# Altium schematic symbol library Generic-Schematic-Library.SchLib: 44 symbols
Pins are listed as number, name and electrical type; pins without a type are passive.

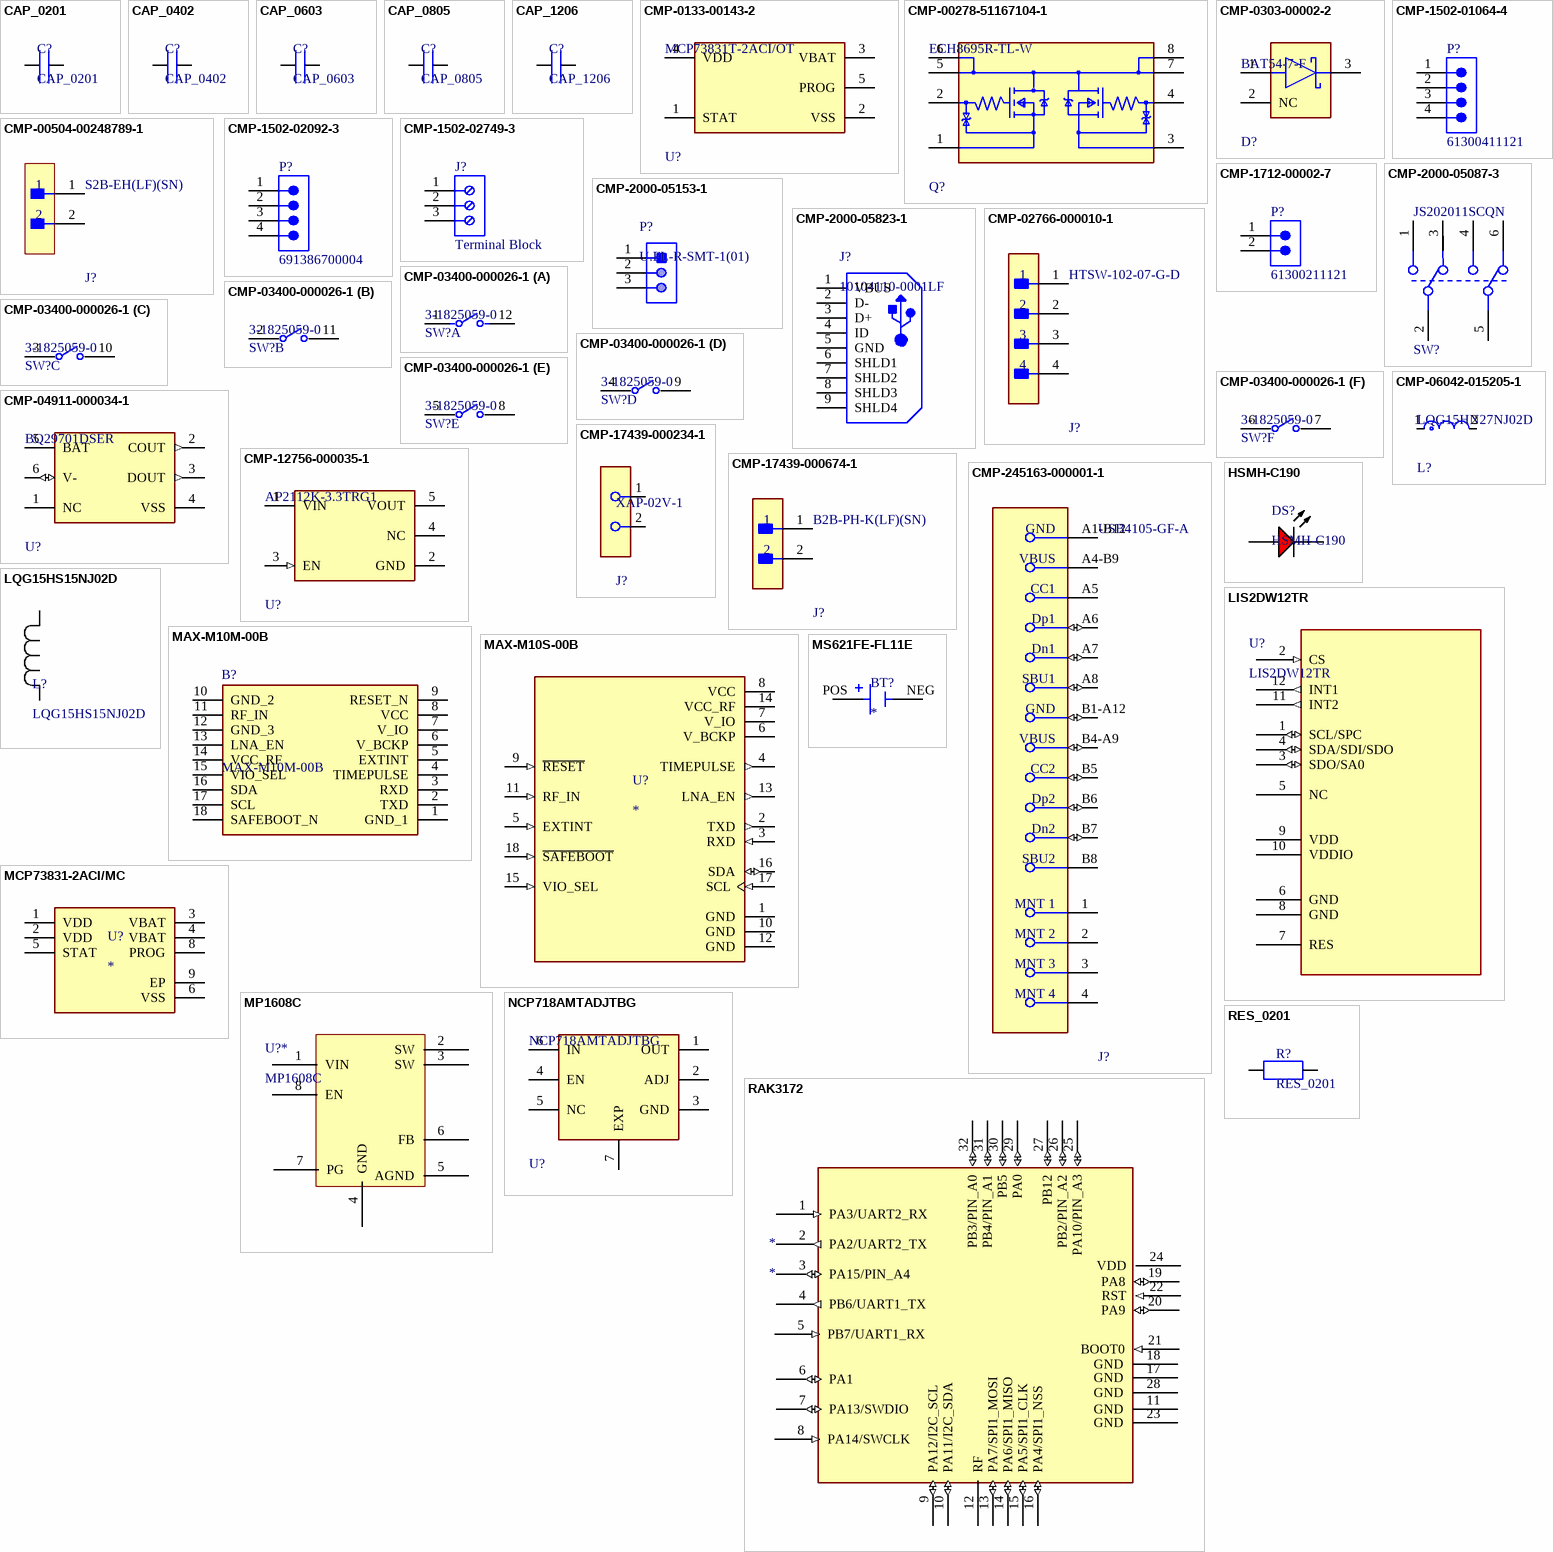
[diagram p0: symbols CAP_0201 to RES_0201]

## CAP_0201
designator C?
Capacitor SMD 0201 Generic; Manufacturer: YAGEO; Manufacturer Part Number: CC0201KRX7R7BB103; Capacitance: 10 nF; Tolerance: 10%; LCSC Part Number: C272853
footprint CAP_0201
pins: 1, 2

## CAP_0402
designator C?
Capacitor SMD 0402 Generic; Manufacturer: YAGEO; Manufacturer Part Number: CC0402JRNPO9BN101; Capacitance: 100 pF; Tolerance: 5%; LCSC Part Number: C106200
footprint CAP_0402
pins: 1, 2

## CAP_0603
designator C?
Capacitor SMD 0603 Generic; Manufacturer: YAGEO; Manufacturer Part Number: CC0603KRX7R8BB104; Capacitance: 100 nF; Tolerance: 10%; LCSC Part Number: C92490
footprint CAP_0603
pins: 1, 2

## CAP_0805
designator C?
Capacitor SMD 0805 Generic; Manufacturer: YAGEO; Manufacturer Part Number: CC0805KKX7R9BB334; Capacitance: 330nF; Tolerance: 10%; LCSC Part Number: C107132
footprint CAP_0805
pins: 1, 2

## CAP_1206
designator C?
Capacitor SMD 1206 Generic; Manufacturer: Mouser; Manufacturer Part Number: 1206CC102K4Z2A; Capacitance: 1000 pF; Tolerance: 10%; LCSC Part Number: C272853
footprint CAP_1206
pins: 1, 2

## CMP-0133-00143-2
designator U?, comment MCP73831T-2ACI/OT
IC CONTROLLR LI-ION 4.2V SOT23-5; Max Power Dissipation: 1.54W; Output Current: 500mA; Max Output Voltage: 4.5V; Number of Outputs: 1; Min Output Voltage: 4.168V; Min Supply Voltage: 3.75V; Max Input Voltage: 6V; Voltage Rating: 4.534V; Drain to Source Resistance: 350mR; Max Operating Temperature: 85°C; Length: 0.122inch; Number of Pins: 5; REACH SVHC: No SVHC; Radiation Hardening: No; Min Operating Temperature: -40°C; Weight: 0.00709oz; Contact Plating: Tin; Termination: SMD/SMT; Case/Package: SOT-23; Mount: Surface Mount; Width: 0.071inch; Packaging: Tape and Reel; Number of Cells: 1; Max Charge Current: 500mA; Height: 0.051inch; Number of Channels: 1; Output Voltage: 4.2V; Max Supply Voltage: 6V; Lead Free: Lead Free
footprint FP-C04-091-OT-IPC_A
pins: 1 STAT, 2 VSS (power), 3 VBAT (power), 4 VDD (power), 5 PROG

## CMP-00278-51167104-1
designator Q?, comment ECH8695R-TL-W
ECH8695R-TL-W Dual N-Channel Power MOSFET, 24V, 11 A, 9.1 mΩ; Manufacturer Lifecycle Status: ACTIVE; NexarPartId: 51167104; Turn-On Delay Time: 300ns; Max Junction Temperature (Tj): 150°C; Rds On Max: 9.1mΩ; Turn-Off Delay Time: 19.7µs; Gate to Source Voltage (Vgs): 12.5V; Drain to Source Resistance: 7mΩ; Rise Time: 320ns; Fall Time: 22.3µs; Power Dissipation: 1.5W; Continuous Drain Current (ID): 11A; Number of Channels: 2; Max Power Dissipation: 1.4W; Mount: Surface Mount; RoHS: Compliant; Number of Pins: 8; Drain to Source Breakdown Voltage: 24V; Min Operating Temperature: -55°C; Width: 2.3mm; Max Operating Temperature: 150°C; Lifecycle Status: Production; Height: 950µm; Contact Plating: Tin; Element Configuration: Dual; Lead Free: Lead Free; Length: 2.9mm; Case/Package: SMD/SMT; Schedule B: 8541290080, 8541290080|8541290080, 8541290080|8541290080|8541290080, 8541290080|8541290080|8541290080|8541290080; Drain to Source Voltage (Vdss): 24V
footprint FP-318BF-MFG
pins: 1 Source1, 2 Gate1, 3 Source2, 4 Gate2, 5 Drain, 6 Drain, 7 Drain, 8 Drain

## CMP-0303-00002-2
designator D?, comment BAT54-7-F
DIODE SCHOTTKY 30V 200MA SOT23-3; Manufacturer: Diodes Inc.; Value: 10pF; Automotive Grade: NA; Max Junction Temp: +150°C; Peak Reverse Current: 2uA; Max Surge Forward Current: 600mA; Standoff Height: 0.013mm; Max Repetitive Reverse Voltage: 30V; Automotive: No; Package: SOT23; Category: Diode; Digikey Description: DIODE SCHOTTKY 30V 200MA SOT23-3; RoHS: TRUE; Temperature Range Low: -65°C; Device Class L3: Schottky Diodes; Footprint Url: https://www.diodes.com/assets/Package-Files/SOT23.pdf; Forward Current: 200mA; Reverse Voltage: 30V; Manufacturer Part Number: BAT54-7-F; Octopart: https://octopart.com/bat54-7-f-diodes+inc.-39681803; Lead Free: Yes; Temperature Range High: +150°C; ComponentLink2Description: Datasheet; Height: 1.1mm; Capacitance: 10pF; ComponentLink2URL: https://www.diodes.com/assets/Datasheets/ds11005.pdf; Temperature: -65°C to +150°C; Device Class L1: Discrete Semiconductors; Device Class L2: Diodes; Mouser Description: Switching diode SOT-23 30 V 200 mA | Diodes Incorporated BAT547F (Switching diode SOT-23 30 V 200 mA Diodes).
footprint FP-SOT23-IPC_C
footprint FP-SOT23-IPC_A
footprint FP-SOT23-IPC_B
footprint FP-SOT23-MFG
pins: 1 A, 2 NC, 3 C

## CMP-00504-00248789-1
designator J?, comment S2B-EH(LF)(SN)
S2B-EH(LF)(SN) Board Connector, 2 Contact(s), 1 Row(s), Male, Right Angle, Solder Terminal, ROHS COMPLIANT; NexarPartId: 248789; Max Voltage Rating (AC): 250V; Pitch: 2.5mm; Connector Type: Male Pin; Contact Resistance: 20mΩ; Number of Contacts: 2; Max Current Rating: 3A; RoHS: Compliant; Termination: Press-Fit; Mount: Through Hole; Housing Color: White; Min Operating Temperature: -25°C; Voltage Rating: 250V; Contact Material: Brass; Max Operating Temperature: 85°C; REACH SVHC: No SVHC; Length: 7.5mm; Width: 8.2mm; Gender: Male; Height: 4.2mm; Number of Positions: 2; Contact Plating: Tin; Depth: 8.2mm; Number of Rows: 1; Fastening Type: Latch; Current Rating: 3A; Orientation: Right Angle; Lead Pitch: 2.5mm; Contact Mating Length: 3.9878mm; Packaging: Bulk; Housing Material: Nylon; Lead Free: Lead Free
footprint FP-S2B-EH_LF_SN-MFG
pins: 1, 2

## CMP-1502-01064-4
designator P?, comment 61300411121
THT Vertical Pin Header WR-PHD, Pitch 2.54 mm, Single Row, 4 pins; Connector Type: Male Pin; Gender: Male; Current Rating: 3A; Number of Positions: 4; Operating Supply Voltage: 250V; Contact Resistance: 20mΩ; Pitch: 2.54mm; Max Operating Temperature: 105°C; Mount: Through Hole; Contact Material: Gold; Contact Plating: Gold; Number of Contacts: 4; Orientation: Vertical; Packaging: Bulk; Contact Mating Length: 5.9944mm; Voltage Rating: 250V; Number of Rows: 1; Height: 8.89mm; Lead Free: Lead Free; Lead Pitch: 2.54mm; Number of Pins: 4; Color: Black; Min Operating Temperature: -40°C; RoHS: Compliant; Termination: Solder
footprint 61300411121 (Pin Header, pitch 2.54 mm, THT, Vertical, single row, 4p)
pins: 1, 2, 3, 4

## CMP-1502-02092-3
designator P?, comment 691386700004
Terminal Block, 5.00MM, Male Pcb Horizontal/vertical Cab Divisible, 4 Pins; Number of Levels: 1; Number of Positions: 4; Current: 14A; Voltage: 300V; Pitch: 5.0038mm; Mount: Through Hole; Max Operating Temperature: 130°C; Lead Pitch: 5mm; Number of Positions Per Level: 4; Packaging: Box; Color: Grey; Min Operating Temperature: -30°C; RoHS: Compliant; Orientation: Vertical; Number of Pins: 4; Termination: Solder
footprint CMP-1502-02092-3 (5.00mm - PCB Header ( Horizontal / Vertical ), 04p)
pins: 1, 2, 3, 4

## CMP-1502-02749-3
designator J?, comment Terminal Block
Terminal Block, 7.62MM Pitch, Horizontal, Dual Pin, 12-30 AWG, 3 Pin 691254410003
footprint CMP-1502-02749-3 (Serie 2544 - 7.62 mm _ 3 pins)
pins: 1, 2, 3

## CMP-1712-00002-7
designator P?, comment 61300211121
THT Vertical Pin Header WR-PHD, Pitch 2.54 mm, Single Row, 2 pins; Pitch: 2.54mm; Number of Contacts: 2; Connector Type: Male Pin; Gender: Male; Contact Resistance: 20mΩ; Operating Supply Voltage: 250V; Current Rating: 3A; Housing Material: PBT; RoHS: Compliant; Lead Free: Lead Free; Contact Material: Gold; REACH SVHC: No; Min Operating Temperature: -40°C; Termination: Through Hole; Number of Pins: 2; Contact Gender: Male; Packaging: Bulk; Lead Pitch: 2.54mm; Contact Plating: Gold; Orientation: Vertical; Mount: Through Hole; Height: 8.94mm; Color: Black; Number of Positions: 2; Contact Mating Length: 5.9944mm; Max Operating Temperature: 105°C; Voltage Rating: 250V; Number of Rows: 1
footprint 61300211121 (Pin Header, pitch 2.54 mm, THT, Vertical, single row, 2p)
pins: 1, 2

## CMP-2000-05087-3
designator SW?, comment JS202011SCQN
SWITCH SLIDE DPDT 300MA 6V; Switch Function: On-On; Actuator Type: Standard; Switch Travel: 2mm; Actuator Color: Black; Contact Resistance: 70mR; Electrical Life: 5000Cycles; Actuator Material: Nylon; REACH SVHC: No SVHC; Series: JS; Min Operating Temperature: -20°C; Depth: 7.5mm; Housing Material: Nylon; Voltage Rating (DC): 6V; Max Operating Temperature: 85°C; Contact Current Rating: 300mA; Package Quantity: 1; Contact Plating: Silver; Contact Material: Copper Alloy; Throw Configuration: DPDT; Current Rating: 300mA; Orientation: Vertical; Max Current Rating: 300mA; Max Voltage Rating (DC): 6V; Flammability Rating: UL94 V-2; Length: 9mm; Packaging: Tape and Reel; Mount: Surface Mount; Actuator Length: 2mm; Lead Free: Lead Free; Termination: Gull Wing; Radiation Hardening: No
footprint FP-JS202011SCQN-MFG
pins: 1, 2, 3, 4, 5, 6

## CMP-2000-05153-1
designator P?, comment U.FL-R-SMT-1(01)
Ultra Small Coaxial Connector, 6 GHz, -40 to 90 degC, 3-Pin SMD, RoHS, Bulk; Manufacturer: Hirose Electric; Connector Style: U.FL; Impedance: 50Ohm; Dielectric Material: LiquidCrystalPolymer(LCP); Minimum Quantity: UltraMiniatureCoaxial; Online Catalog: U.FLSeries; Featured Product: HiroseU.FLSeries; Frequency - Max: 6GHz; Other Names: H122041 / U.FL-R-SMT-1(01)-ND; Contact Termination: Solder; Body Material: PhosphorBronze; Connector Type: Jack,MalePin; Body Finish: Silver; Center Contact Plating: Gold; Manufacturer URL: https://www.hirose.com; Family: CoaxialConnectors(RF); Fastening Type: Snap-On; Unit PriceUSD: U.FL; Series: U.FL; Package Reference: U.FL-R-SMT; Packaging: Bulk; Standard Package: 100; Mounting Type: SurfaceMount; Quantity Available: Bulk; Housing Color: Silver; Package Description: 3-Pin Surface Mount Device, Body 2.6 x 2.6 mm; Category: Connectors,Interconnects; Operating Temperature: -40degC~90degC; Center Contact Material: PhosphorBronze; Dynamic Catalog: U.FLSeries; Datasheet URL: https://datasheet.ciiva.com/26945/getdatasheetpartid-475239-26945414.pdf; Datasheet Version: Feb-09; Shield Termination: Solder
footprint HRS-U.FL-R-SMT-3_V (SMT, 3-Leads, Body 2.6x2.6mm)
pins: 1, 2, 3

## CMP-2000-05823-1
designator J?, comment 10104110-0001LF
Micro USB, Receptacle, -55 to 85 degC, 5-Pin SMD, RoHS, Tape and Reel; Manufacturer: FCI Electronics; Connector Type: USBMicroB; Contact Termination: SurfaceMountRightAngle; Connector Mounting: PCB; No. of Contacts: 5; Manufacturer URL: http://portal.fciconnect.com/; Contact Plating: Gold; Package Description: 5-Pin Surface Mount Device, Body 8.06 x 5.6 mm, Pitch 0.65 mm; Datasheet URL: http://portal.fciconnect.com/Comergent//fci/drawing/10104110.pdf; Datasheet Version: Rev. C, 03/2011; Package Reference: 10104110-0001LF; Mounting Technology: SurfaceMount; Gender: Receptacle
footprint FCI-10104110-0001LF_V (SMD, 5-Leads, Body 8.06x5.6mm, Pitch 0.65mm)
pins: 1 VBUS (power), 2 D-, 3 D+, 4 ID, 5 GND (power), 6 SHLD1, 7 SHLD2, 8 SHLD3, 9 SHLD4

## CMP-02766-000010-1
designator J?, comment HTSW-102-07-G-D
CONN HEADER VERT 4POS 2.54MM; Manufacturer: Samtec; Voltage Rating: 550V; Conn Orientation: Straight; Number Of Contacts: 4; Conn Gender: Male; Current Rating: 6.3A; Number Of Rows: 2; Category: Conn; Temperature: -55°C to +125°C; Automotive: No; Digikey Description: CONN HEADER VERT 4POS 2.54MM; ComponentLink2URL: http://suddendocs.samtec.com/catalog_english/htsw_th.pdf; Device Class L2: Headers and Wire Housings; Mouser Description: Conn Unshrouded Header HDR 4 POS 2.54mm Solder ST Thru-Hole Bag; Manufacturer Part Number: HTSW-102-07-G-D; Temperature Range High: +125°C; Contact Material: Gold,Nickel; Temperature Range Low: -55°C; ComponentLink2Description: Datasheet; Device Class L1: Connectors; Pitch: 2.54mm; Octopart: https://octopart.com/htsw-102-07-g-d-samtec-10531767; RoHS: TRUE; Package: HTSW-102-07-G-D; Lead Free: Yes; Device Class L3: unset; Height: 8.71mm
footprint FP-HTSW-102-07-G-D-MFG
pins: 1, 2, 3, 4

## CMP-03400-000026-1
designator SW?, comment 3-1825059-0
SWITCH SLIDE DIP SPST 100MA 24V; Actuator Material: Polyamide; Voltage Rating (DC): 5V; Actuator Type: Standard; Number of Positions: 6; Body Material: Polyphenylene; Contact Resistance: 50mR; Sealable: Yes (With); Actuator Length: 0mm; Washable: Yes; Mechanical Life: 1000Cycles; Contact Current Rating: 1A; Pitch: 0.1inch; RoHS Compliant: Yes; Housing Color: Black; Contact Material: Copper Alloy; Mount: Surface Mount; Contact Plating: Gold; Length: 17.22mm; Flammability Rating: UL94 V-0; Orientation: Straight; Package Quantity: 750; Packaging: Tape and Reel; Type: Switch; Depth: 9.3mm; Max Current Rating: 100mA; Terminal Pitch: 2.54mm; Max Voltage Rating (DC): 24V; Min Operating Temperature: -30°C; Radiation Hardening: No; ELV: Compliant; Termination: Gull Wing; Throw Configuration: SPST; Housing Material: Polyphenylene; Lead Free: Lead Free; Max Operating Temperature: 85°C; Height: 0.138inch; Electrical Life: 1000Cycles; Series: ADF, Alcoswitch
footprint FP-3-1825059-0-MFG
part A pins: 1, 12
part B pins: 2, 11
part C pins: 3, 10
part D pins: 4, 9
part E pins: 5, 8
part F pins: 6, 7

## CMP-04911-000034-1
designator U?, comment BQ29701DSER
IC LITHIUM BATT PROTECT 6-SON; Fault Protection: Over Current; Number of Cells: 1; Operating Supply Voltage: 28V; Number of Pins: 6; RoHS Compliant: Yes; Lead Free: Lead Free; Max Operating Temperature: 85°C; Case/Package: WFDFN; Contact Plating: Gold; Packaging: Tape and Reel; Mount: Surface Mount; Min Operating Temperature: -40°C
footprint FP-DSE0006A-IPC_A
pins: 1 NC, 2 COUT (out), 3 DOUT (out), 4 VSS (power), 5 BAT (power), 6 V- (io)

## CMP-06042-015205-1
designator L?, comment LQG15HN27NJ02D
Multilayer type RF Inductor 27nH ±5% 0.67Ω 300mA 0402; Shielding: Unshielded; DC Resistance (DCR): 670mR; Test Frequency: 100MHz; Q Factor: 8; Core Material: Air; Self Resonant Frequency: 1.6GHz; Max DC Current: 300mA; Width: 0.02inch; Min Operating Temperature: -55°C; Package Quantity: 10000; Inductance: 27nH; Lead Free: Lead Free; Case/Package: 0402; Height: 0.02inch; Depth: 0.55mm; Length: 0.039inch; REACH SVHC: No SVHC; Radiation Hardening: No; Height - Seated (Max): 0.022inch; Max Operating Temperature: 125°C; Inductance Tolerance: 5%; Current Rating: 300mA; Termination: SMD/SMT; Case Code (Imperial): 0402; DC Current: 300mA; Packaging: Tape and Reel; Tolerance: 5%; Case Code (Metric): 1005; Military Standard: Not; Mount: Surface Mount
footprint FP-LQG15HH_02-IPC_B
footprint FP-LQG15HH_02-IPC_A
footprint FP-LQG15HH_02-MFG
footprint FP-LQG15HH_02-IPC_C
pins: 1, 2

## CMP-12756-000035-1
designator U?, comment AP2112K-3.3TRG1
IC REG LINEAR 3.3V 600MA SOT25; Number of Regulators: 1; Output Type: Fixed; Polarity: Positive; Min Input Voltage: 2.5V; Max Input Voltage: 6V; Accuracy: 1.5%; Quiescent Current: 55uA; Dropout Voltage: 250mV; Min Operating Temperature: -40°C; Length: 3.1mm; Output Current: 600mA; Max Operating Temperature: 85°C; Package Quantity: 1; Output Voltage: 3.3V; Width: 1.7mm; Number of Outputs: 1; Packaging: Tape and Reel; Height: 1.3mm; Lead Free: Lead Free; Max Output Current: 600mA; Case/Package: SOT-23-5; Mount: Surface Mount; Number of Pins: 5
footprint FP-SOT25-IPC_A
footprint FP-SOT25-MFG
footprint FP-SOT25-IPC_C
pins: 1 VIN (power), 2 GND (power), 3 EN (in), 4 NC, 5 VOUT (power)

## CMP-17439-000234-1
designator J?, comment XAP-02V-1
CONN HOUSING XA 2POS 2.5MM; Insulation Resistance: 1GR; Current Rating: 3A; Number of Positions: 2; Gender: Female; Max Voltage Rating (AC): 250V; Wire Gauge (Max): 28AWG; Wire/Cable Gauge: 20AWG; Contact Resistance: 10mR; Connector Type: Receptacle; Length: 7.3mm; Series: XA; Pitch: 2.5mm; Contact Plating: Tin; Housing Color: White; Flammability Rating: UL94 V-0; Max Operating Temperature: 85°C; Lead Free: Lead Free; Color: Natural; REACH SVHC: No SVHC; Contact Material: Bronze; Number of Pins: 2; Material: Nylon; Voltage Rating (DC): 250V; Termination: Crimp; Packaging: Bulk; Contact Type: Female Socket; Min Operating Temperature: -25°C; Weight: 0.0625lb; Fastening Type: Latch; Depth: 9.5mm; Height: 9.5mm; Width: 6.9mm; Mount: Free Hanging; Wire Gauge (Min): 20AWG; Orientation: Straight; Housing Material: Polyamide; Max Voltage Rating (DC): 250V; Voltage Rating (AC): 250V; Number of Rows: 1; Max Current Rating: 3A; Number of Contacts: 2
footprint FP-XAP-02V-1-MFG
pins: 1, 2

## CMP-17439-000674-1
designator J?, comment B2B-PH-K(LF)(SN)
Connector Header Through Hole 2 position 0.079" (2.00mm); Gender: Male; Pitch: 2mm; Voltage Rating: 100V; Current Rating: 2A; Number of Positions: 2; Insulation Resistance: 1GR; Contact Plating: Tin; Color: Beige; Min Operating Temperature: -25°C; Mount: Through Hole; Number of Rows: 1; Termination: Crimp; Max Operating Temperature: 85°C; Lead Free: Lead Free; Contact Material: Brass; Material: Polyamide
footprint FP-B2B-PH-K_LF_SN-MFG
pins: 1, 2

## CMP-245163-000001-1
designator J?, comment USB4105-GF-A
CONN RCPT USB2.0 TYPEC 5A; Manufacturer: GCT; Voltage Rating: 20V; Is Female: yes; Current Rating: 5/6.25/1.25/0.25A; Number Of Contacts: 16; Conn Orientation: Right Angle; Device Class L1: Connectors; Category: Conn; Lead Free: Yes; RoHS: TRUE; Temperature Range High: +85°C; Digikey Description: CONN RCPT USB2.0 TYPEC 5A; Device Class L3: unset; ComponentLink2Description: Datasheet; Manufacturer Part Number: USB4105-GF-A; Package: 0; Usb Standard: USB 2.0; Device Class L2: USB Connectors; Automotive: No; Temperature Range Low: -40°C; Height: 3.46mm; Temperature: -40°C to +85°C; Contact Material: Gold,Nickel; ComponentLink2URL: https://gct.co/files/drawings/usb4105.pdf; Octopart: https://octopart.com/usb4105-gf-a-gct-106627878
footprint FP-USB4105-GF-A-MFG
pins: 1 MNT 1 (power), 2 MNT 2 (power), 3 MNT 3 (power), 4 MNT 4 (power), A1-B12 GND (power), A4-B9 VBUS (power), A5 CC1 (power), A6 Dp1 (io), A7 Dn1 (io), A8 SBU1 (io), B1-A12 GND (io), B4-A9 VBUS (io), B5 CC2 (io), B6 Dp2 (io), B7 Dn2 (io), B8 SBU2 (power)

## HSMH-C190
designator DS?
LED Uni-Color Red, 65 mW, 20 mA, -40 to 85 degC, 2-Pin SMD, RoHS, Tape and Reel; Connector Type: USB; Gender: Male; Current Rating: 1 A; Length: 7.5 mm; Lead Pitch: 0.65 mm; PackageReference: HSMX-C190; Package Quantity: 2000; Max Operating Temperature: 85 degC; PackageDescription: 2-Pin Surface Mount Device, Body 1.6 x 0.8 mm, Height 0.9 mm; ComponentLink3Description: Package Specification; Mount: Surface Mount; Min Operating Temperature: -30 degC; ComponentLink3URL: http://www.fairchildsemi.com/dwg/MA/MA03D.pdf; ComponentLink1Description: Manufacturer URL; Contact Material: Copper; Pins: 5; Width: 5.6 mm; ComponentLink2Description: Datasheet; RoHSCompliant: true; DatasheetVersion: Mar-12; Height: 2.8 mm; Packaging: Tape and Reel; Contact Plating: Gold; ComponentLink1URL: http://www.avagotech.com/; REACH SVHC: No SVHC; ComponentLink2URL: http://docs.avagotech.com/docs/AV02-0551EN
footprint AVAG-HSMX-C190_V (SMD, 2-Leads, Body 1.6x0.8mm, Height 0.9mm)
footprint HSMH-C190 (SMD, 2-Leads, Body 1.6x0.8mm, Height 0.9mm)
pins: 1 A, 2 K

## LIS2DW12TR
designator U?
MEMS digital output motion sensor: high-performance ultralow-power 3-axis &#34;femto&#34; accelerometer; Manufacturer_Name: STMicroelectronics; Copyright: Copyright (C) 2026 Ultra Librarian. All rights reserved.; Manufacturer_Part_Number: LIS2DW12TR; RefDes: RefDes; Type: Type
footprint LGA-12_2X2X0P7_STM
pins: 1 SCL/SPC (io), 2 CS (in), 3 SDO/SA0 (io), 4 SDA/SDI/SDO (io), 5 NC, 6 GND (power), 7 RES (power), 8 GND (power), 9 VDD (power), 10 VDDIO (power), 11 INT2 (out), 12 INT1 (out)

## LQG15HS15NJ02D
designator L?
Description; Manufacturer_Name: Murata; Copyright: Copyright (C) 2025 Ultra Librarian. All rights reserved.; Manufacturer_Part_Number: LQG15HS15NJ02D
footprint IND_LQG15HN_02_MUR
footprint IND_LQG15HN_02_MUR-L
pins: 1, 2

## MAX-M10M-00B
designator B?
GPS Modules u-blox M10 GNSS LCC module, firmware in ROM, crystal oscillator; Geometry.Height: 2.7mm; Manufacturer_Name: u-blox; Manufacturer_Part_Number: MAX-M10M-00B; Mouser Part Number: 377-MAX-M10M-00B; Mouser Price/Stock: https://www.mouser.co.uk/ProductDetail/u-blox/MAX-M10M-00B?qs=A6eO%252BMLsxmQGh8%2FJ1ZmexA%3D%3D; Arrow Part Number: MAX-M10M-00B; Arrow Price/Stock: https://www.arrow.com/en/products/max-m10m-00b/u-blox?utm_currency=USD&region=nac; Datasheet Link: https://content.u-blox.com/sites/default/files/documents/MAX-M10M_IntegrationManual_UBX-22038241.pdf
footprint MAXM10M00B
pins: 1 GND_1, 2 TXD, 3 RXD, 4 TIMEPULSE, 5 EXTINT, 6 V_BCKP, 7 V_IO, 8 VCC, 9 RESET_N, 10 GND_2, 11 RF_IN, 12 GND_3, 13 LNA_EN, 14 VCC_RF, 15 VIO_SEL, 16 SDA, 17 SCL, 18 SAFEBOOT_N

## MAX-M10S-00B
designator U?
MP: MAX-M10S-00B; Package: None; Price: None; Value: *; Availability: Unavailable
footprint XCVR_MAX-M10S-00B
pins: 1 GND (power), 2 TXD (out), 3 RXD (in), 4 TIMEPULSE (out), 5 EXTINT (in), 6 V_BCKP (power), 7 V_IO (power), 8 VCC (power), 9 ~{RESET} (in), 10 GND (power), 11 RF_IN (in), 12 GND (power), 13 LNA_EN (out), 14 VCC_RF (power), 15 VIO_SEL (in), 16 SDA (io), 17 SCL (in), 18 ~{SAFEBOOT} (in)

## MCP73831-2ACI/MC
designator U?
Charge Controller Li-Ion/Li-Pol 15mA to 500mA 4.2V 8-Pin DFN EP | Microchip Technology Inc. MCP73831-2ACI/MC; SnapEDA_Link: https://www.snapeda.com/parts/MCP73831-2ACI/MC/Microchip/view-part/?ref=snap; Package: VFDFN-8 Microchip; Value: *; MF: Microchip; MP: MCP73831-2ACI/MC; Check_prices: https://www.snapeda.com/parts/MCP73831-2ACI/MC/Microchip/view-part/?ref=eda
footprint SON50P200X300X100-9N
pins: 1 VDD (power), 2 VDD (power), 3 VBAT, 4 VBAT, 5 STAT, 6 VSS (power), 8 PROG, 9 EP (power)

## MP1608C
designator U?*
The MP1608C is a monolithic, step-down switchmode converter with built-in internal power / MOSFETs. It achieves 6A of continuous output / current (IOUT) from a 2.4V to 5.5V input voltage / (VIN) range, with excellent load and line / regulation. The output voltage (VOUT) can be / regulated to as low as 0.4V. / The constant-on-time (COT) control scheme / provides fast transient response and facilitates / loop stabilization. Fault protections include / cycle-by-cycle current limiting and thermal / shutdown. / The MP1608C is well-suited for a wide range of / applications including high-performance digital / signal processors (DSPs), wireless power, / portable and mobile devices, and other lowpower systems. / The MP1608C requires a minimal number of / readily available, standard external components. / It is available in an ultra-small SOT583 package.; Manufacturer: Monolithic Power Systems (MPS); Manufacturer Part Number: MP1608CGTL-P; Switching Frequency: 1.25MHz; Operating Junction Temp (Tj): -40°C to +125°C; Feedback Voltage (Vfb): 0.6V; Input Voltage (Min): 2.4V; Input Voltage (Max): 5.5V; Output Current (Max): 6A; Package: SOT583-8; Mounting Type: Surface Mount (SMD)
footprint MP1608C
footprint MP1608C_1
pins: 1 VIN "Supply voltage", 2 SW "Output switching node", 3 SW "Output switching node", 4 GND "Power ground.", 5 AGND "Signal ground", 6 FB "Feedback pin", 7 PG "Power good indicator", 8 EN "On/off control"

## MS621FE-FL11E
designator BT?
Coin, 6.8mm 3 V Lithium Battery Rechargeable (Secondary) 5.5mAh; MF: Seiko Instruments; MP: MS621FE-FL11E; Value: *; Purchase-URL: https://pricing.snapeda.com/search/part/MS621FE-FL11E/?ref=eda; Package: QFP-128 Seiko; Availability: In Stock; Check_prices: https://www.snapeda.com/parts/MS621FE-FL11E/Seiko+Instruments/view-part/?ref=eda; Price: None; SnapEDA_Link: https://www.snapeda.com/parts/MS621FE-FL11E/Seiko+Instruments/view-part/?ref=snap
footprint BAT_MS621FE-FL11E
pins: NEG, POS

## NCP718AMTADJTBG
designator U?
NCP718AMTADJTBG LDO Regulator, 300 mA, Wide Vin, Ultra-Low Iq Adjustable, Active Discharge, WDFN6; NexarPartId: 87159789; Output Current: 300mA; Number of Outputs: 1; Max Supply Voltage: 24V; Dropout Voltage: 490mV; Nominal Supply Current: 4µA; Min Supply Voltage: 2.5V; Max Junction Temperature (Tj): 150°C; Accuracy: 2%; Max Operating Temperature: 150°C; Output Type: Adjustable; Height: 800µm; RoHS: Compliant; Manufacturer Lifecycle Status: ACTIVE; Number of Channels: 1; Schedule B: 8542390000, 8542390000|8542390000|8542390000|8542390000|8542390000; Lifecycle Status: Production
footprint FP-511BR-IPC_A
footprint NCP718AMTADJTBG
pins: 1 OUT, 2 ADJ, 3 GND, 4 EN, 5 NC, 6 IN, 7 EXP

## RAK3172
designator *
footprint XCVR_RAK3172
footprint XCVR_RAK3172
pins: 1 PA3/UART2_RX (in) "Reserved - UART2/LPUART1 Interface (AT Commands and FW Update)", 2 PA2/UART2_TX (out) "Reserved - UART2/LPUART1 Interface (AT Commands and FW Update)", 3 PA15/PIN_A4 (io) "GPIO and ADC", 4 PB6/UART1_TX (out) "UART1 Interface", 5 PB7/UART1_RX (in) "UART1 Interface", 6 PA1 (io) "GPIO only", 7 PA13/SWDIO (io) "Reserved - SWD debug pin (SWDIO)", 8 PA14/SWCLK (in) "Reserved - SWD debug pin (SWCLK)", 9 PA12/I2C_SCL (io) "GPIO and I2C (SCL)", 10 PA11/I2C_SDA (io) "GPIO and I2C (SDA)", 11 GND (power) "Ground connections", 12 RF "RF Port (only available on RAK3172 No-IPEX connector variant)", 13 PA7/SPI1_MOSI (io) "GPIO and SPI (MOSI)", 14 PA6/SPI1_MISO (io) "GPIO and SPI (MISO)", 15 PA5/SPI1_CLK (io) "GPIO and SPI (CLK)", 16 PA4/SPI1_NSS (io) "GPIO and SPI (NSS)", 17 GND (power) "Ground connections", 18 GND (power) "Ground connections", 19 PA8 (io) "GPIO only", 20 PA9 (io) "GPIO only", 21 BOOT0 (in) "Boot0 mode enable pin - high active", 22 RST (in) "MCU Reset (NRST)", 23 GND (power) "Ground connections", 24 VDD (power) "VDD - Voltage Supply", 25 PA10/PIN_A3 (io) "GPIO and ADC", 26 PB2/PIN_A2 (io) "GPIO and ADC", 27 PB12 (io) "10 kΩ internally pulled-up for high freq variant or pulled-down for low freq variant", 28 GND (power) "Ground connections", 29 PA0 (io) "GPIO only", 30 PB5 (io) "GPIO only", 31 PB4/PIN_A1 (io) "GPIO and ADC", 32 PB3/PIN_A0 (io) "GPIO and ADC"

## RES_0201
designator R?
Resistor SMD 0201 Generic; Manufacturer: YAGEO; Manufacturer Part Number: RT0201BRD07200RL; Tolerance: 0.1%; Resistance: 200 Ohm; LCSC Part Number: C852221
footprint RES_0201
footprint Model Name (Footprint not found)
footprint Model Name (Footprint not found)
footprint RES_0201
footprint RES_0201
pins: 1, 2

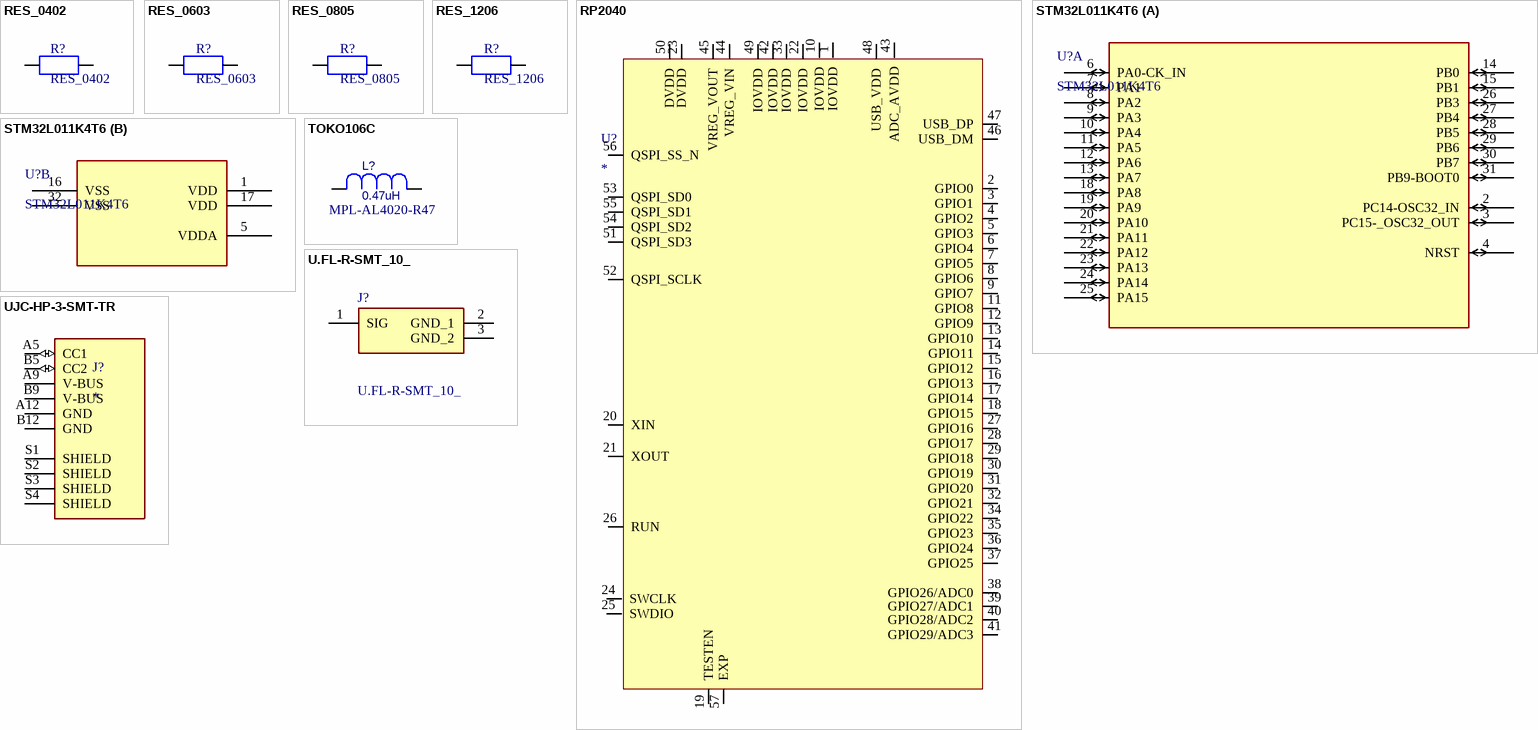
[diagram p1: symbols RES_0402 to UJC-HP-3-SMT-TR]

## RES_0402
designator R?
Resistor SMD 0402 Generic; Manufacturer: YAGEO; Manufacturer Part Number: RC0402FR07150KL; Tolerance: 1%; Resistance: 150 kOhm; LCSC Part Number: C93947
footprint RES_0402
pins: 1, 2

## RES_0603
designator R?
Resistor SMD 0603 Generic; Manufacturer: YAGEO; Manufacturer Part Number: NT0603BRD0711K1L; Tolerance: 0.1%; Resistance: 11.1 kOhm; LCSC Part Number: C5197511
footprint RES_0603
pins: 1, 2

## RES_0805
designator R?
Resistor SMD 0805 Generic; Manufacturer: YAGEO; Manufacturer Part Number: PE0805FRF470R02L; Tolerance: 1%; Resistance: 20 mOhm; LCSC Part Number: C858594
footprint RES_0805
pins: 1, 2

## RES_1206
designator R?
Resistor SMD 1206 Generic; Manufacturer: YAGEO; Manufacturer Part Number: AC1206FR-07390KL; Tolerance: 1%; Resistance: 390 kOhm; LCSC Part Number: C229586
footprint RES_1206
pins: 1, 2

## RP2040
designator U?
264KB 30 133MHZ LQFN-56(7X7) Microcontrollers (mcu/mpu/soc) Rohs; Manufacturer: Rasperry Pi; Manufacturer Part Number: RP2040; Supplier: RS; Supplier Part Number: 2211611; Stock: 2540; Pricing: 10=6.171, 50=5.945, 100=5.805 (DKK); LCSC: C2040
footprint RP2040
pins: 1 IOVDD, 2 GPIO0, 3 GPIO1, 4 GPIO2, 5 GPIO3, 6 GPIO4, 7 GPIO5, 8 GPIO6, 9 GPIO7, 10 IOVDD, 11 GPIO8, 12 GPIO9, 13 GPIO10, 14 GPIO11, 15 GPIO12, 16 GPIO13, 17 GPIO14, 18 GPIO15, 19 TESTEN, 20 XIN, 21 XOUT, 22 IOVDD, 23 DVDD, 24 SWCLK, 25 SWDIO, 26 RUN, 27 GPIO16, 28 GPIO17, 29 GPIO18, 30 GPIO19, 31 GPIO20, 32 GPIO21, 33 IOVDD, 34 GPIO22, 35 GPIO23, 36 GPIO24, 37 GPIO25, 38 GPIO26/ADC0, 39 GPIO27/ADC1, 40 GPIO28/ADC2, 41 GPIO29/ADC3, 42 IOVDD, 43 ADC_AVDD, 44 VREG_VIN, 45 VREG_VOUT, 46 USB_DM, 47 USB_DP, 48 USB_VDD, 49 IOVDD, 50 DVDD, 51 QSPI_SD3, 52 QSPI_SCLK, 53 QSPI_SD0, 54 QSPI_SD2, 55 QSPI_SD1, 56 QSPI_SS_N, 57 EXP

## STM32L011K4T6
designator U?
Ultra-low-power Arm Cortex-M0+ MCU with 16-Kbytes of Flash memory, 32 MHz CPU; Manufacturer_Name: STMicroelectronics; Copyright: Copyright (C) 2026 Ultra Librarian. All rights reserved.; Manufacturer_Part_Number: STM32L011K4T6; Datasheet: https://www.st.com/resource/en/datasheet/stm32l011d4.pdf; RefDes: RefDes; Type: Type
footprint LQFP32_7X7X1P4
part A pins: 2 PC14-OSC32_IN, 3 PC15-_OSC32_OUT, 4 NRST, 6 PA0-CK_IN, 7 PA1, 8 PA2, 9 PA3, 10 PA4, 11 PA5, 12 PA6, 13 PA7, 14 PB0, 15 PB1, 18 PA8, 19 PA9, 20 PA10, 21 PA11, 22 PA12, 23 PA13, 24 PA14, 25 PA15, 26 PB3, 27 PB4, 28 PB5, 29 PB6, 30 PB7, 31 PB9-BOOT0
part B pins: 1 VDD (power), 5 VDDA (power), 16 VSS (power), 17 VDD (power), 32 VSS (power)

## TOKO106C
designator L?, comment value 0.47uH  (hidden comment: COILCRAFT/LPO2506IB-682)
TOKO106C
footprint MPL-AL4020-R47
pins: 1, 2
text: MPL-AL4020-R47

## U.FL-R-SMT_10_
designator J?
U.FL (UMCC) Connector Receptacle, Male Pin 50 Ohms Surface Mount Solder; Manufacturer_Name: Hirose; Manufacturer_Part_Number: U.FL-R-SMT(10); Geometry.Height: 1.45mm; Mouser Part Number: 798-U.FL-R-SMT10; Mouser Price/Stock: https://www.mouser.co.uk/ProductDetail/Hirose-Connector/U.FL-R-SMT10?qs=Ux3WWAnHpjBT1CWD8UMEMQ%3D%3D; Arrow Part Number: U.FL-R-SMT(10); Arrow Price/Stock: https://www.arrow.com/en/products/u.fl-r-smt-10/hirose-electric?utm_currency=USD&region=nac; Datasheet Link: https://eu.mouser.com/datasheet/2/185/hiros05388_1-2269186.pdf
footprint UFLRSMT10
pins: 1 SIG, 2 GND_1, 3 GND_2

## UJC-HP-3-SMT-TR
designator J?
MP: UJC-HP-3-SMT-TR; Package: None; Price: None; Value: *; Availability: Unavailable
footprint CUI_UJC-HP-3-SMT-TR
pins: A5 CC1 (io), A9 V-BUS (power), A12 GND (power), B5 CC2 (io), B9 V-BUS (power), B12 GND (power), S1 SHIELD, S2 SHIELD, S3 SHIELD, S4 SHIELD